# Altium footprint library 4_smd_3.2x2.5mm.PcbLib: 1 footprints
Each footprint in its own frame and in the unit in brackets; x right, y up, seen from the top. Pads: shape width x height; smd on the part's side, far side on the other; paste and mask are expansions set on the pad; w line width, h text height; cw(c..) or ccw(c..) is an arc to the next point about the centre after c.
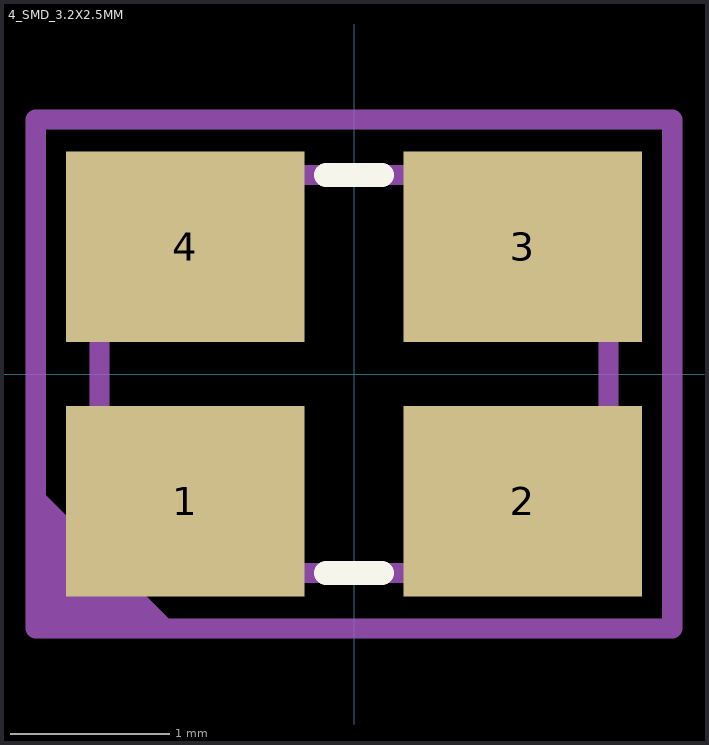
[diagram p0: the footprint, top view; thin cyan lines are the x and y axes]

## 4_SMD_3.2X2.5MM [mm]
height 1.15
pads (4):
  rect 1.5x1.2 smd: 1(-1.06,-0.8) 2(1.06,-0.8) 3(1.06,0.8) 4(-1.06,0.8)
Top Overlay:
  lines w0.15: -0.175,-1.25 0.175,-1.25 ; -0.175,1.25 0.175,1.25
Top 3D Body:
  lines w0.127: -1.6,-1.25 1.6,-1.25 1.6,1.25 -1.6,1.25 -1.6,-1.25
Top Courtyard:
  region: -2,-1.6 -2,-0.7 -1.1,-1.6
  lines w0.127: -2,-1.6 2,-1.6 2,1.6 -2,1.6 -2,-1.6
Top Designator (Mech17):
  text ".Designator" at -1.052,-0.142 h0.48
3D body "3225_4pin.STEP": height 1, standoff 0, extent -1.6,-1.25 1.6,1.25